# Altium schematic symbol library RC1210JR-070RL.SchLib: 1 symbol
Pins are listed as number, name and electrical type; pins without a type are passive.

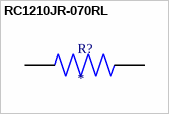
[diagram p0: symbol RC1210JR-070RL]

## RC1210JR-070RL
designator R?
MP: RC1210JR-070RL; Package: None; Price: None; Value: *; Availability: Unavailable
pins: 1, 2